# EAGLE library part 23LC1024 (library DorMouse)
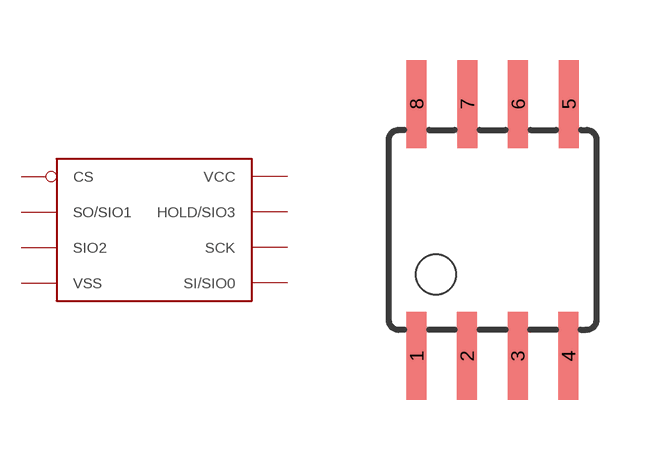
[diagram p0: symbol with the pads of SOIC8; footprint SOIC8]

Designator prefix -

## 23LC1024  [SOIC8]
1  CS
2  SO/SIO1
3  SIO2
4  VSS
5  SI/SIO0
6  SCK
7  HOLD/SIO3
8  VCC

## Footprint SOIC8 (pad centres in mm)
Wide Plastic Gull Wing Small Outline Package
smd 0.5 x 2.2: 1 -1.905,-3.154; 2 -0.645,-3.154; 3 0.625,-3.154; 4 1.895,-3.154; 5 1.905,3.154; 6 0.635,3.154; 7 -0.635,3.154; 8 -1.905,3.154